# EAGLE library part DIR9001PW (library wheat)
IC, DIGITAL AUDIO RCVR, SSOP28
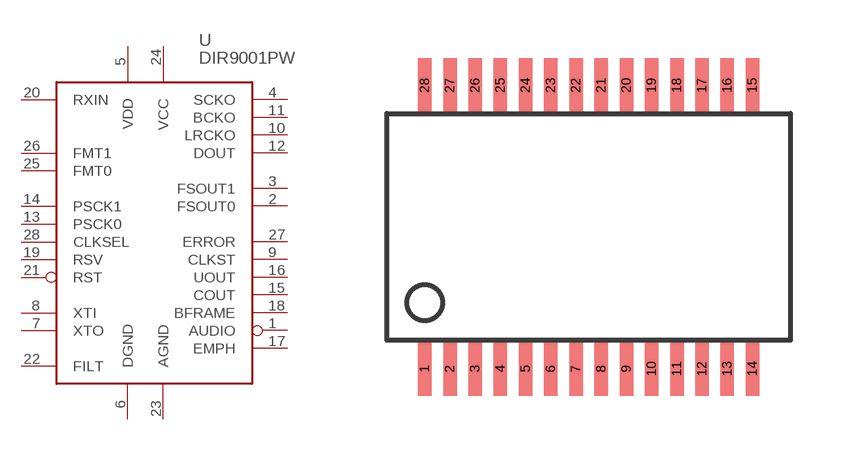
[diagram p67: symbol with the pads of TSSOP28; footprint TSSOP28]

Designator prefix U

## DIR9001PW  [TSSOP28]
1  AUDIO  out
2  FSOUT0  out
3  FSOUT1  out
4  SCKO  out
5  VDD  pwr
6  DGND  pwr
7  XTO  in
8  XTI  in
9  CLKST  out
10  LRCKO  out
11  BCKO  out
12  DOUT  out
13  PSCK0  in
14  PSCK1  in
15  COUT  out
16  UOUT  out
17  EMPH  out
18  BFRAME  out
19  RSV  in
20  RXIN  in
21  RST  in
22  FILT  in
23  AGND  pwr
24  VCC  pwr
25  FMT0  in
26  FMT1  in
27  ERROR  out
28  CLKSEL  in

## Footprint TSSOP28 (pad centres in mm)
TSSOP28, 0.65MM PITCH
smd 0.348 x 1.397: 1 -4.225,-3.656; 2 -3.575,-3.656; 3 -2.925,-3.656; 4 -2.275,-3.656; 5 -1.625,-3.656; 6 -0.975,-3.656; 7 -0.325,-3.656; 8 0.325,-3.656; 9 0.975,-3.656; 10 1.625,-3.656; 11 2.275,-3.656; 12 2.925,-3.656; 13 3.575,-3.656; 14 4.225,-3.656; 15 4.225,3.656; 16 3.575,3.656; 17 2.925,3.656; 18 2.275,3.656; 19 1.625,3.656; 20 0.975,3.656; 21 0.325,3.656; 22 -0.325,3.656; 23 -0.975,3.656; 24 -1.625,3.656; 25 -2.275,3.656; 26 -2.925,3.656; 27 -3.575,3.656; 28 -4.225,3.656